# EAGLE library part MICROMAG3 (library quadcopter)
The MicroMag3 is an integrated 3-axis magnetic field sensing module.
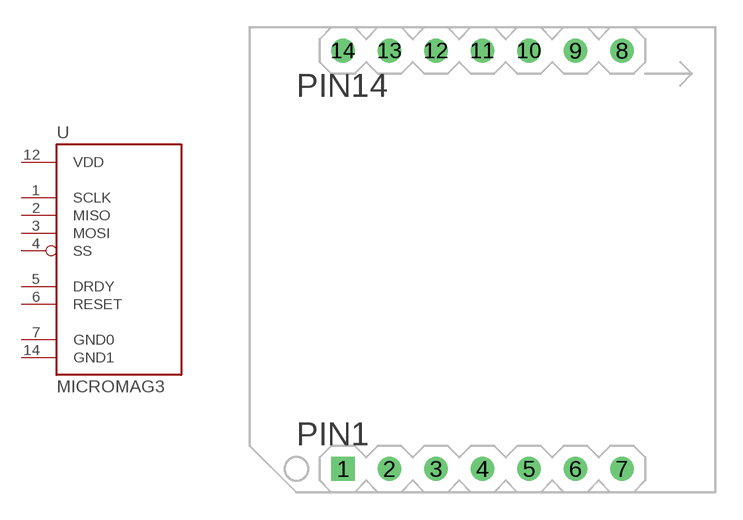
[diagram p0: symbol with the pads of CUSTOM; footprint CUSTOM]

Designator prefix -

## MICROMAG3  [CUSTOM]
1  SCLK
2  MISO
3  MOSI
4  SS
5  DRDY
6  RESET
7  GND0
12  VDD
14  GND1

## Footprint CUSTOM (pad centres in mm)
drill 0.8 square: 1 5.08,1.27
drill 0.8 round: 2 7.62,1.27; 3 10.16,1.27; 4 12.7,1.27; 5 15.24,1.27; 6 17.78,1.27; 7 20.32,1.27; 8 20.32,24.13; 9 17.78,24.13; 10 15.24,24.13; 11 12.7,24.13; 12 10.16,24.13; 13 7.62,24.13; 14 5.08,24.13